# Altium schematic symbol library MYLIB.SchLib: 37 symbols
Pins are listed as number, name and electrical type; pins without a type are passive.

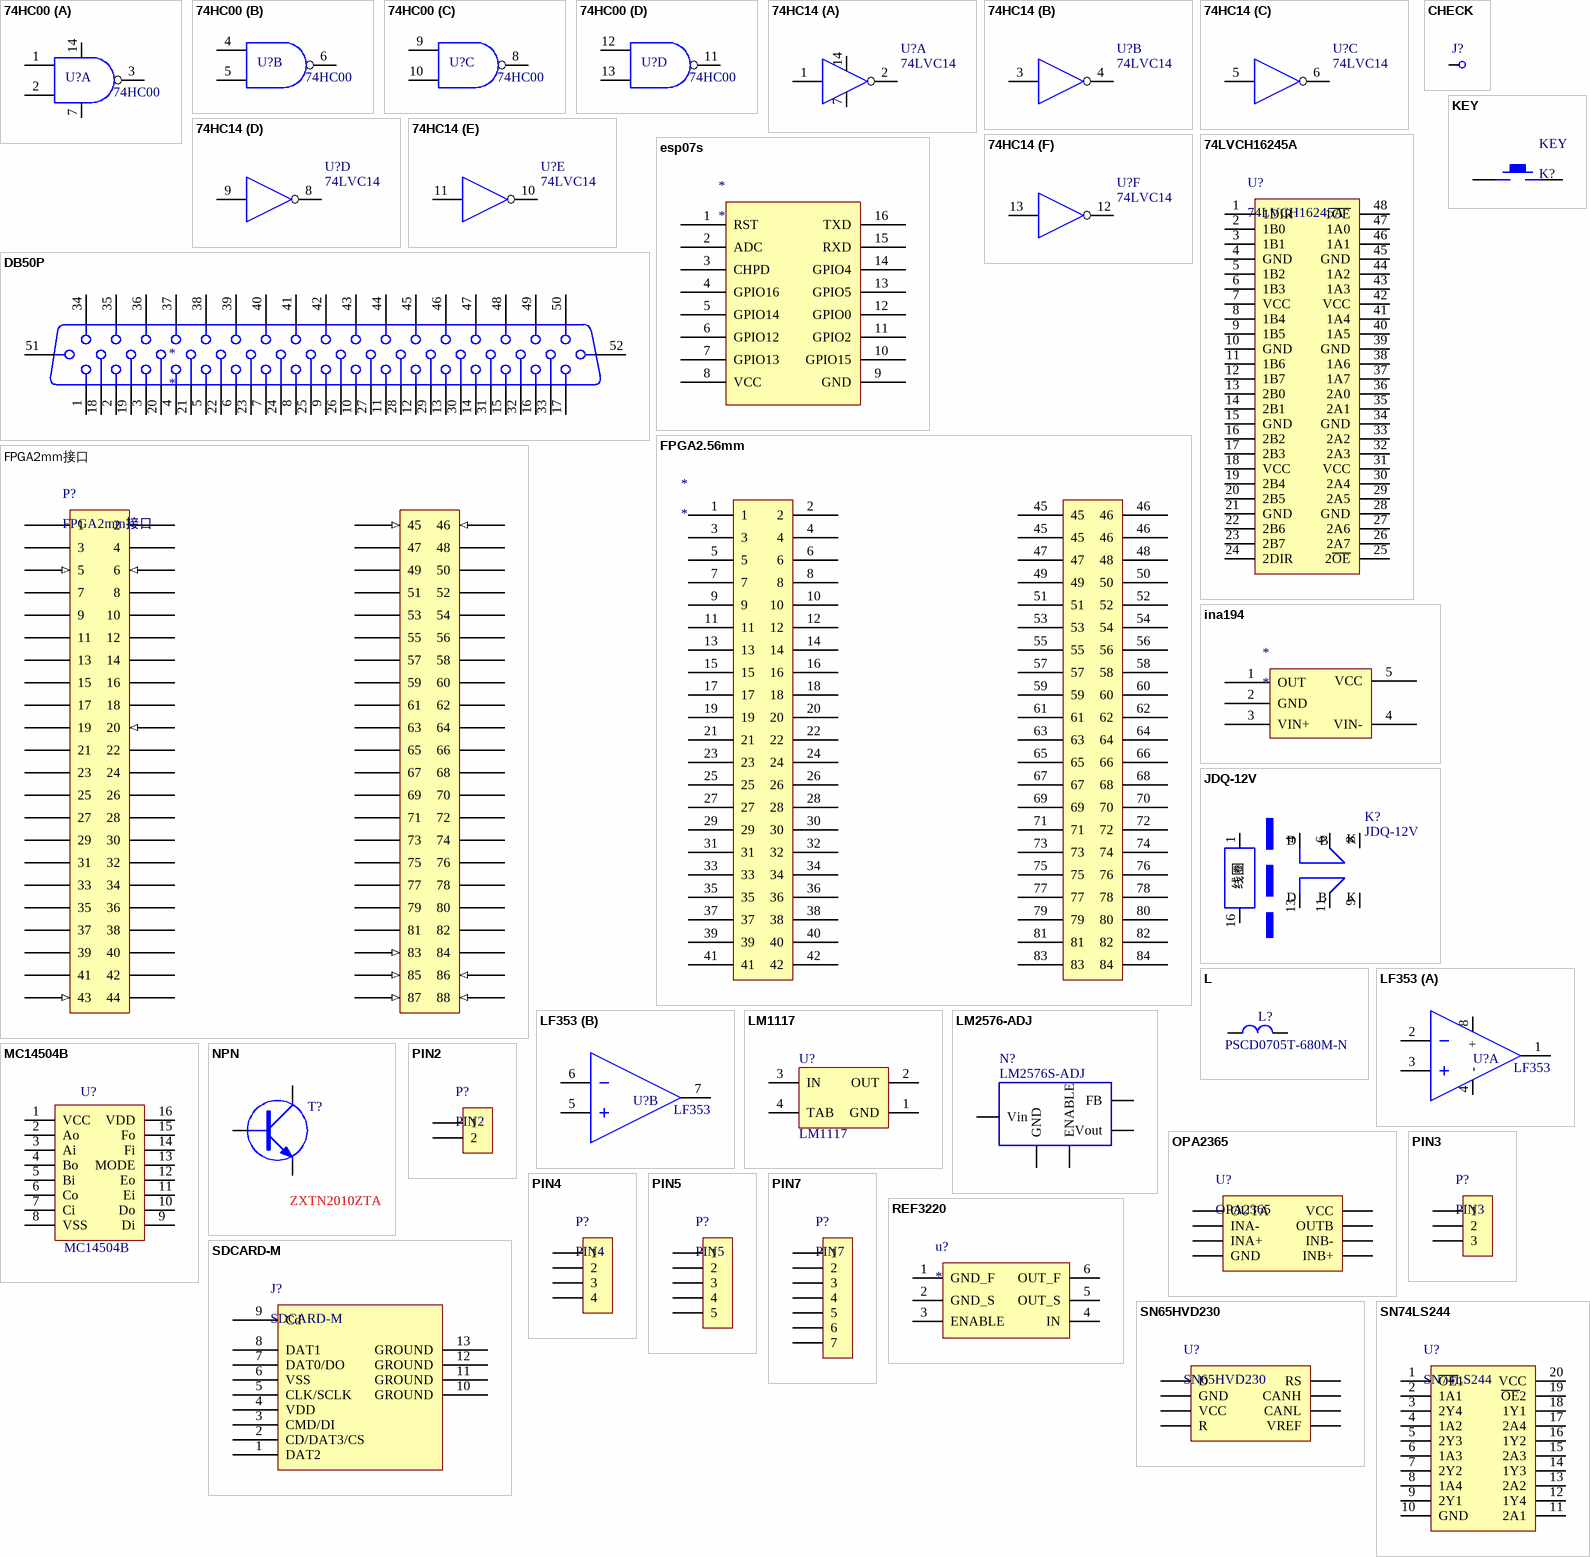
[diagram p0: symbols 74HC00 to SN74LS244]

## 74HC00
designator U?
footprint SO-14
footprint DIP14
part A pins: 1, 2, 3, 7, 14
part B pins: 4, 5, 6
part C pins: 8, 9, 10
part D pins: 11, 12, 13

## 74HC14
designator U?, comment 74LVC14
74HC14
footprint DIP14
footprint SO-14
part A pins: 1, 2, 7, 14
part B pins: 3, 4
part C pins: 5, 6
part D pins: 8, 9
part E pins: 10, 11
part F pins: 12, 13

## 74LVCH16245A
designator U?
footprint 74LVCH16245A (SOP, 48-Leads, Body 16.0x7.6mm (max), Pitch 0.63mm, IPC Medium Density)
pins: 1 1DIR, 2 1B0, 3 1B1, 4 GND, 5 1B2, 6 1B3, 7 VCC, 8 1B4, 9 1B5, 10 GND, 11 1B6, 12 1B7, 13 2B0, 14 2B1, 15 GND, 16 2B2, 17 2B3, 18 VCC, 19 2B4, 20 2B5, 21 GND, 22 2B6, 23 2B7, 24 2DIR, 25 2~{OE}, 26 2A7, 27 2A6, 28 GND, 29 2A5, 30 2A4, 31 VCC, 32 2A3, 33 2A2, 34 GND, 35 2A1, 36 2A0, 37 1A7, 38 1A6, 39 GND, 40 1A5, 41 1A4, 42 VCC, 43 1A3, 44 1A2, 45 GND, 46 1A1, 47 1A0, 48 1~{OE}

## CHECK
designator J?  (value not drawn)
测试点
footprint CHECK-A (Connector; Plug)
footprint CHECK-B (Connector; Plug)
pins: 1

## DB50P
designator *
footprint DB50P
pins: 1, 2, 3, 4, 5, 6, 7, 8, 9, 10, 11, 12, 13, 14, 15, 16, 17, 18, 19, 20, 21, 22, 23, 24, 25, 26, 27, 28, 29, 30, 31, 32, 33, 34, 35, 36, 37, 38, 39, 40, 41, 42, 43, 44, 45, 46, 47, 48, 49, 50, 51, 52

## esp07s
designator *
footprint ESP07S
pins: 1 RST, 2 ADC, 3 CHPD, 4 GPIO16, 5 GPIO14, 6 GPIO12, 7 GPIO13, 8 VCC, 9 GND, 10 GPIO15, 11 GPIO2, 12 GPIO0, 13 GPIO5, 14 GPIO4, 15 RXD, 16 TXD

## FPGA2.56mm
designator *
footprint FPGA2.56mm接口
pins: 1, 2, 3, 4, 5, 6, 7, 8, 9, 10, 11, 12, 13, 14, 15, 16, 17, 18, 19, 20, 21, 22, 23, 24, 25, 26, 27, 28, 29, 30, 31, 32, 33, 34, 35, 36, 37, 38, 39, 40, 41, 42, 45, 45, 46, 46, 47, 48, 49, 50, 51, 52, 53, 54, 55, 56, 57, 58, 59, 60, 61, 62, 63, 64, 65, 66, 67, 68, 69, 70, 71, 72, 73, 74, 75, 76, 77, 78, 79, 80, 81, 82, 83, 84

## FPGA2mm接口
designator P?
footprint FPGA2mm接口
pins: 1 (power), 2 (power), 3 (power), 4 (power), 5 (in), 6 (in), 7, 8, 9, 10, 11, 12, 13, 14, 15, 16, 17, 18, 19, 20 (in), 21, 22, 23, 24, 25, 26, 27, 28, 29, 30, 31, 32, 33, 34, 35, 36, 37, 38, 39, 40, 41, 42, 43 (in), 44, 45 (in), 46 (in), 47, 48, 49, 50, 51, 52, 53, 54, 55, 56, 57, 58, 59, 60, 61, 62, 63, 64, 65, 66, 67, 68, 69, 70, 71, 72, 73, 74, 75, 76, 77, 78, 79, 80, 81, 82, 83 (in), 84, 85 (in), 86 (in), 87 (in), 88 (in)

## ina194
designator *
footprint ina194 (SOT23, 5-Leads, Body 3.0x3.0mm (max), Pitch 0.95mm, IPC Medium Density)
pins: 1 OUT, 2 GND, 3 VIN+, 4 VIN-, 5 VCC

## JDQ-12V
designator K?
footprint JDQ-12V
pins: 1, 4, 6, 8, 9, 11, 13, 16
text: D; B; K; 线圈

## KEY
designator KEY, comment K?
footprint sop2
pins: 1, 2

## L
designator L?, comment PSCD0705T-680M-N
footprint L-68UH
pins: 1, 2

## LF353
designator U?
footprint NSO8_N (SOIC-max660)
part A pins: 1, 2, 3, 4 -, 8 +
part B pins: 5, 6, 7

## LM1117
designator U?
800mA LDO; PartNumber: LM1117IMP-5.0; Manufacturer: National Semiconductor; CompType: LDO IC; PackageTopMarking: XYTT*N06B; Published: 4-Dec-2008; DatasheetVersion: Apr-2006; PackageVersion: revB, Apr-2003; PackageReference: MP04A; Publisher: Altium Limited; PackageDescription: Molded SOT-223, 6.50 x 3.56 x 1.6mm Body, 4 Lead, 2.3mm Pitch; RoHS: O; PinCount: 4; DigiKeyPartNumber: LM1117IMP-5.0CT-ND; Code_JEDEC: TO-261-AA; Code_IPC: SOT223-4; ComponentLink1Description: LM1117 Datasheet; ComponentLink1URL: http://www.national.com/ds/LM/LM1117.pdf; ComponentLink2Description: LM1117 Web Page; ComponentLink2URL: http://www.national.com/pf/LM/LM1117.html; ComponentLink3Description: MP04A Package Page; ComponentLink3URL: http://www.national.com/packaging/folders/mp04a.html
footprint MP04A_N
pins: 1 GND (power), 2 OUT (power), 3 IN (power), 4 TAB (power)

## LM2576-ADJ
designator N?, comment LM2576S-ADJ
footprint TO-265
pins: 1 Vin, 2 Vout, 3 GND, 4 FB, 5 ENABLE

## MC14504B
designator U?
footprint MC14504B
pins: 1 VCC, 2 Ao, 3 Ai, 4 Bo, 5 Bi, 6 Co, 7 Ci, 8 VSS, 9 Di, 10 Do, 11 Ei, 12 Eo, 13 MODE, 14 Fi, 15 Fo, 16 VDD

## NPN
designator T?, comment ZXTN2010ZTA
footprint 8050NPN (SOT-89()
pins: b B, c C, e E

## OPA2365
designator U?
OPA2365,双运放通用封装
footprint NSO8_N (SOIC-max660)
pins: 1 OUTA, 2 INA-, 3 INA+, 4 GND, 5 INB+, 6 INB-, 7 OUTB, 8 VCC

## PIN2
designator P?
footprint PIN2
pins: 1, 2

## PIN3
designator P?
footprint PIN3
pins: 1, 2, 3

## PIN4
designator P?
footprint PIN4
pins: 1, 2, 3, 4

## PIN5
designator P?
footprint PIN5
pins: 1, 2, 3, 4, 5

## PIN7
designator P?
footprint PIN7
pins: 1, 2, 3, 4, 5, 6, 7

## REF3220
designator u?
footprint SOT23-6 (Max4173)
pins: 1 GND_F, 2 GND_S, 3 ENABLE, 4 IN, 5 OUT_S, 6 OUT_F

## SDCARD-M
designator J?
TF卡槽
footprint SDCARD-M (TF卡)
pins: 1 DAT2, 2 CD/DAT3/CS, 3 CMD/DI, 4 VDD, 5 CLK/SCLK, 6 VSS, 7 DAT0/DO, 8 DAT1, 9 Cd, 10 GROUND, 11 GROUND, 12 GROUND, 13 GROUND

## SN65HVD230
designator U?
footprint NSO8_N (SOIC-max660)
pins: 1 D, 2 GND, 3 VCC, 4 R, 5 VREF, 6 CANL, 7 CANH, 8 RS

## SN74LS244
designator U?
footprint SN74LS244
pins: 1 ~{OE}1, 2 1A1, 3 2Y4, 4 1A2, 5 2Y3, 6 1A3, 7 2Y2, 8 1A4, 9 2Y1, 10 GND, 11 2A1, 12 1Y4, 13 2A2, 14 1Y3, 15 2A3, 16 1Y2, 17 2A4, 18 1Y1, 19 ~{OE}2, 20 VCC

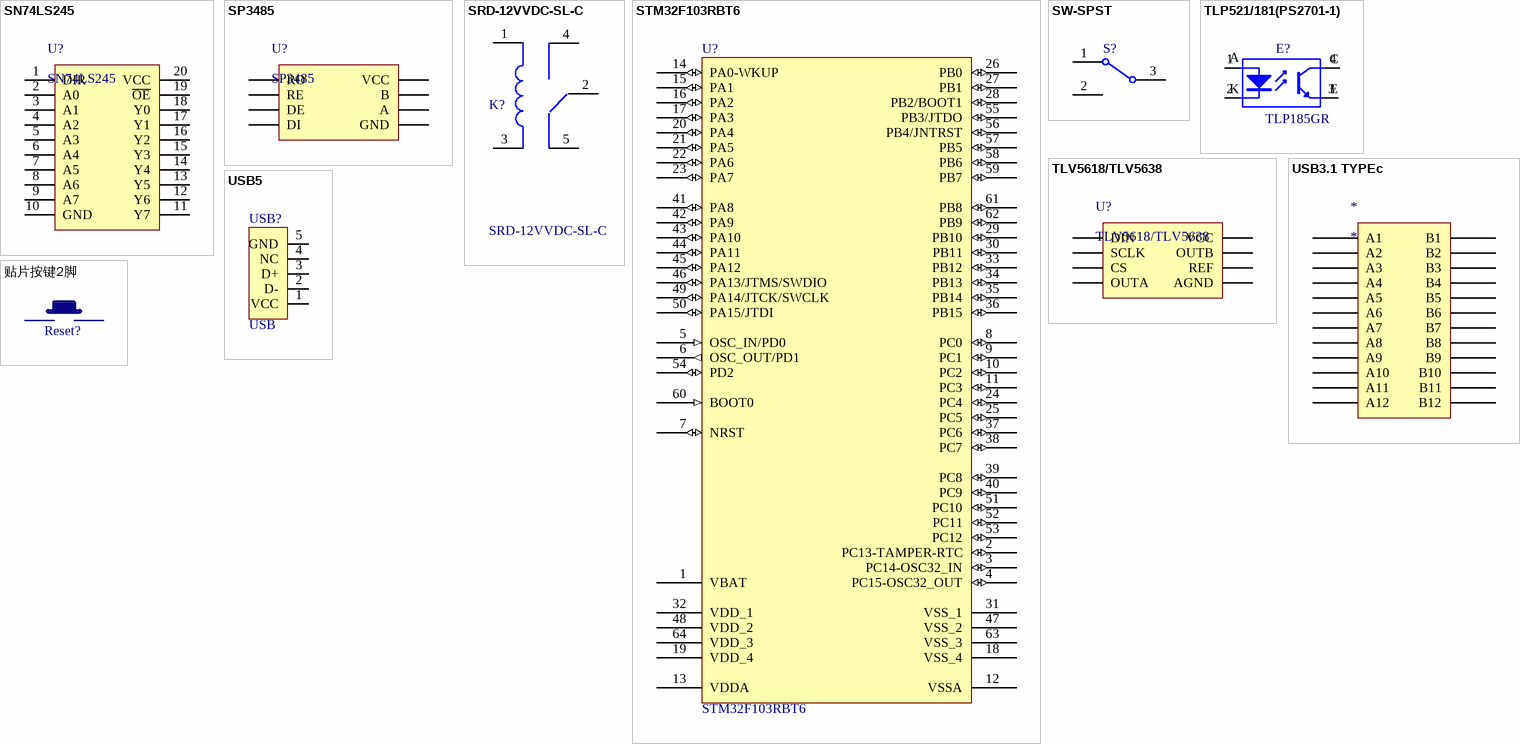
[diagram p1: symbols SN74LS245 to 贴片按键2脚]

## SN74LS245
designator U?
footprint SN74LS245
pins: 1 DIR, 2 A0, 3 A1, 4 A2, 5 A3, 6 A4, 7 A5, 8 A6, 9 A7, 10 GND, 11 Y7, 12 Y6, 13 Y5, 14 Y4, 15 Y3, 16 Y2, 17 Y1, 18 Y0, 19 ~{OE}, 20 VCC

## SP3485
designator U?
footprint NSO8_N (SOIC-max660)
pins: 1 RO, 2 RE, 3 DE, 4 DI, 5 GND, 6 A, 7 B, 8 VCC

## SRD-12VVDC-SL-C
designator K?
footprint DIP5
pins: 1, 2, 3, 4, 5

## STM32F103RBT6
designator U?
STM32 ARM-based 32-bit MCU with 128 Kbytes Flash, 64-pin LQFP, Industrial Temperature; Published: 30-May-2008; DatasheetVersion: rev6, Mar-2008; PackageVersion: Mar-2008; PackageReference: LQFP64; Publisher: Altium Limited; PackageDescription: 64-Pin Low-Profile Quad Flat Pack, 10 x 10 mm Body, 0.5 mm Pitch (LQFP64); ComponentLink1Description: Manufacturer Link; ComponentLink1URL: www.st.com/stm32; ComponentLink2Description: Datasheet; ComponentLink2URL: http://www.st.com/stonline/products/literature/ds/13587.pdf
footprint LQFP64
pins: 1 VBAT (power), 2 PC13-TAMPER-RTC (io), 3 PC14-OSC32_IN (io), 4 PC15-OSC32_OUT (io), 5 OSC_IN/PD0 (in), 6 OSC_OUT/PD1 (out), 7 NRST (io), 8 PC0 (io), 9 PC1 (io), 10 PC2 (io), 11 PC3 (io), 12 VSSA (power), 13 VDDA (power), 14 PA0-WKUP (io), 15 PA1 (io), 16 PA2 (io), 17 PA3 (io), 18 VSS_4 (power), 19 VDD_4 (power), 20 PA4 (io), 21 PA5 (io), 22 PA6 (io), 23 PA7 (io), 24 PC4 (io), 25 PC5 (io), 26 PB0 (io), 27 PB1 (io), 28 PB2/BOOT1 (io), 29 PB10 (io), 30 PB11 (io), 31 VSS_1 (power), 32 VDD_1 (power), 33 PB12 (io), 34 PB13 (io), 35 PB14 (io), 36 PB15 (io), 37 PC6 (io), 38 PC7 (io), 39 PC8 (io), 40 PC9 (io), 41 PA8 (io), 42 PA9 (io), 43 PA10 (io), 44 PA11 (io), 45 PA12 (io), 46 PA13/JTMS/SWDIO (io), 47 VSS_2 (power), 48 VDD_2 (power), 49 PA14/JTCK/SWCLK (io), 50 PA15/JTDI (io), 51 PC10 (io), 52 PC11 (io), 53 PC12 (io), 54 PD2 (io), 55 PB3/JTDO (io), 56 PB4/JNTRST (io), 57 PB5 (io), 58 PB6 (io), 59 PB7 (io), 60 BOOT0 (in), 61 PB8 (io), 62 PB9 (io), 63 VSS_3 (power), 64 VDD_3 (power)

## SW-SPST
designator S?  (value not drawn)
Single-Pole, Single-Throw Switch; Published: 24-Mar-1999; LatestRevisionDate: 17-Jul-2002; LatestRevisionNote: Re-released for DXP Platform.; PackageReference: SPST-2; Publisher: Altium Limited
footprint SW
pins: 1 NO, 2 COMMON, 3 COMMON

## TLP521/181(PS2701-1)
designator E?, comment TLP185GR
TLP521/181(PS2701)
footprint TLP185
pins: 1, 2, 3, 4
text: A; C; K; E

## TLV5618/TLV5638
designator U?
footprint NSO8_N (SOIC-max660)
pins: 1 DIN, 2 SCLK, 3 CS, 4 OUTA, 5 AGND, 6 REF, 7 OUTB, 8 VCC

## USB3.1 TYPEc
designator *
footprint MicroUSB TypeC 3.1
pins: 1 A1, 2 A2, 3 A3, 4 A4, 5 A5, 6 A6, 7 A7, 8 A8, 9 A9, 10 A10, 11 A11, 12 A12, 13 B12, 14 B11, 15 B10, 16 B9, 17 B8, 18 B7, 19 B6, 20 B5, 21 B4, 22 B3, 23 B2, 24 B1

## USB5
designator USB?, comment USB
footprint USB/SM0.8-6H5
pins: 1 VCC, 2 D-, 3 D+, 4 NC, 5 GND

## 贴片按键2脚
designator Reset?  (value not drawn)
footprint 贴片按键2脚
pins: 1, 2